# Altium schematic symbol library Schlib1.SchLib: 4 symbols
Pins are listed as number, name and electrical type; pins without a type are passive.

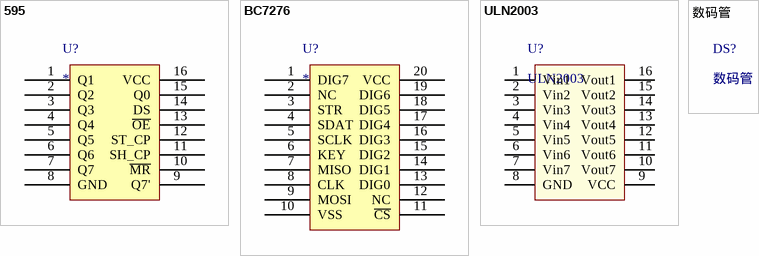
[diagram p0: symbols 595 to 数码管]

## 595
designator U?
pins: 1 Q1, 2 Q2, 3 Q3, 4 Q4, 5 Q5, 6 Q6, 7 Q7, 8 GND, 9 Q7', 10 ~{MR}, 11 SH_CP, 12 ST_CP, 13 ~{OE}, 14 DS, 15 Q0, 16 VCC

## BC7276
designator U?
pins: 1 DIG7, 2 NC, 3 STR, 4 SDAT, 5 SCLK, 6 KEY, 7 MISO, 8 CLK, 9 MOSI, 10 VSS, 11 ~{CS}, 12 NC, 13 DIG0, 14 DIG1, 15 DIG2, 16 DIG3, 17 DIG4, 18 DIG5, 19 DIG6, 20 VCC

## ULN2003
designator U?
pins: 1 Vin1, 2 Vin2, 3 Vin3, 4 Vin4, 5 Vin5, 6 Vin6, 7 Vin7, 8 GND, 9 VCC, 10 Vout7, 11 Vout6, 12 Vout5, 13 Vout4, 14 Vout3, 15 Vout2, 16 Vout1

## 数码管
designator DS?